# Altium footprint library МЦТР.00010592.00.002.PcbLib: 25 footprints (part 2 of 2)
Each footprint in its own frame and in the unit in brackets; x right, y up, seen from the top. Pads: shape width x height; smd on the part's side, far side on the other; paste and mask are expansions set on the pad; w line width, h text height; cw(c..) or ccw(c..) is an arc to the next point about the centre after c.
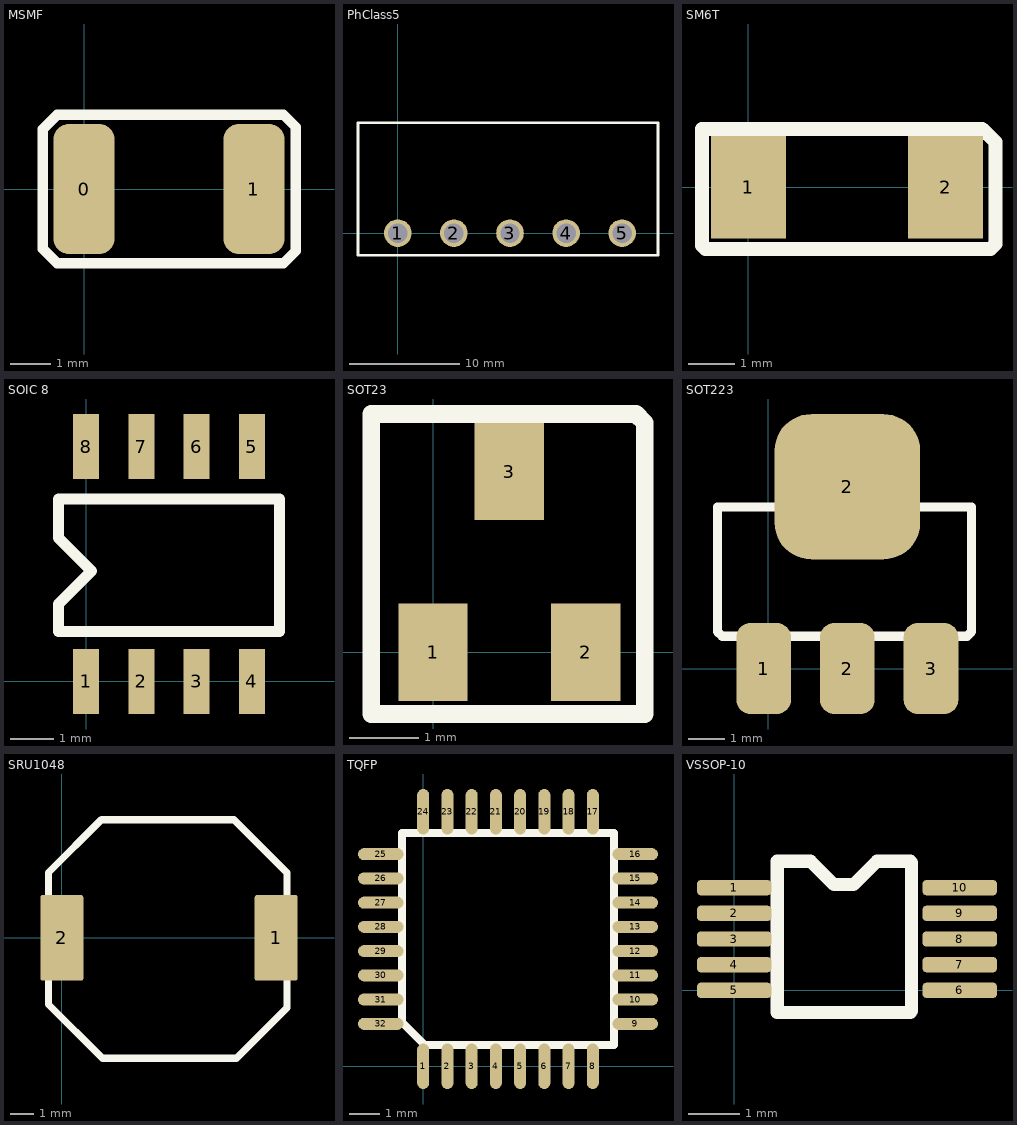
[diagram p1: the footprints below, top view; thin cyan lines are the x and y axes]

## MSMF [mm] "PTC Fuse"
height 2
pads (2):
  rrect50% 1.5x3.2 smd: 0(0,0) 1(4.175,0)
Top Overlay:
  lines w0.254: -1.016,-1.473 -1.016,1.473 -0.66,1.829 4.902,1.829 5.207,1.524 5.207,-1.524 4.902,-1.829 -0.66,-1.829 -1.016,-1.473
3D body "MF-MSMF030-2.STEP": height 0.85, standoff 0, extent -0.116,-1.62 4.434,1.62

## PhClass5 [mm]
height 8
pads (5):
  round 2.5 hole 1.75: 1(0,0) 2(5.08,0) 3(10.16,0) 4(15.24,0) 5(20.32,0)
Top Overlay:
  lines w0.254: -3.6,-2 -3.6,10 23.56,10 23.56,-2 -3.6,-2
3D body "MSTBA-2.5-5-G-5.08.STEP": height 8.6, standoff -3.5, extent -3.524,-2.034 23.876,9.968

## SM6T [mm]
height 3
pads (2):
  rect 1.6x2.2 smd: 1(0,0) 2(4.22,0)
Top Overlay:
  lines w0.3: -0.991,-1.245 -0.914,-1.321 5.182,-1.321 5.283,-1.219 5.283,0.965 5.004,1.245 -0.991,1.245 -0.991,-1.245
3D body "SMAJ5.0CA.STEP": height 2.4, standoff 0, extent -0.446,-1.303 4.764,1.302

## SOIC 8 [mm]
height 1
pads (8):
  rect 0.6x1.5 smd: 1(0,0) 2(1.27,0) 3(2.54,0) 4(3.81,0) 5(3.81,5.4) 6(2.54,5.4) 7(1.27,5.4) 8(0,5.4)
Top Overlay:
  lines w0.254: -0.635,1.143 4.445,1.143 4.445,4.191 -0.635,4.191 -0.635,3.302 0.127,2.54 -0.635,1.778 -0.635,1.143
3D body "SOIC8.STEP": height 1.75, standoff 0, extent -0.547,-0.328 4.358,5.662

## SOT23 [mm]
height 1
pads (3):
  rect 1x1.4 smd: 1(0,0) 2(2.2,0) 3(1.1,2.6)
Top Overlay:
  lines w0.254: -0.889,-0.889 -0.889,3.429 2.921,3.429 3.048,3.302 3.048,-0.889 -0.889,-0.889
3D body "CDSOT23-SM712--3DModel-STEP-56544.STEP": height 1.17, standoff 0, extent -0.434,0.122 2.466,2.418

## SOT223 [mm]
height 1
pads (4):
  rrect50% 1.5x2.5 smd mask+0.1: 1(-0.127,0) 2(2.173,0) 3(4.473,0)
  rrect50% 4x4 smd: 2(2.173,5)
Top Overlay:
  lines w0.254: -1.397,1.016 -1.397,4.445 5.588,4.445 5.588,1.016 5.461,0.889 -1.27,0.889 -1.397,1.016
3D body "SOT223.STEP": height 1.8, standoff 0, extent -1.091,-0.578 5.409,6.42

## SRU1048 [mm]
height 5
pads (2):
  rrect10% 1.8x3.6 smd: 1(9,0) 2(0,0)
Top Overlay:
  lines w0.3: -0.559,-2.794 1.702,-5.055 7.341,-5.055 9.449,-2.946 9.449,2.743 7.231,4.961 1.659,4.961 -0.559,2.743 -0.559,-2.794
3D body "SRU1048331Y.STEP": height 5.1, standoff 0, extent -0.555,-4.619 9.445,5.381

## TQFP [mm]
height 2
pads (32):
  oval 0.4x1.5 smd mask+0.05: 1(0,0) 2(0.8,0) 3(1.6,0) 4(2.4,0) 5(3.2,0) 6(4,0) 7(4.8,0) 8(5.6,0) 17(5.6,8.4) 18(4.8,8.4) 19(4,8.4) 20(3.2,8.4) 21(2.4,8.4) 22(1.6,8.4) 23(0.8,8.4) 24(0,8.4)
  oval 1.5x0.4 smd mask+0.05: 9(7,1.4) 10(7,2.2) 11(7,3) 12(7,3.8) 13(7,4.6) 14(7,5.4) 15(7,6.2) 16(7,7) 25(-1.4,7) 26(-1.4,6.2) 27(-1.4,5.4) 28(-1.4,4.6) 29(-1.4,3.8) 30(-1.4,3) 31(-1.4,2.2) 32(-1.4,1.4)
Top Overlay:
  lines w0.254: -0.7,1.462 0.062,0.7 6.3,0.7 6.3,7.7 -0.7,7.7 -0.7,1.462
3D body "ATMEGA168PB-AU.STEP": height 1.2, standoff 0, extent -1.706,-0.309 7.294,8.691

## VSSOP-10 [mm]
height 1
pads (10):
  rrect50% 1.45x0.3 smd mask+0.05: 1(0,2) 2(0,1.5) 3(0,1) 4(0,0.5) 5(0,0) 6(4.394,0) 7(4.394,0.5) 8(4.394,1) 9(4.394,1.5) 10(4.394,2)
Top Overlay:
  lines w0.254: 0.838,-0.432 0.838,2.515 1.486,2.515 1.943,2.057 2.324,2.057 2.781,2.515 3.429,2.515 3.454,2.489 3.454,-0.406 3.429,-0.432 0.838,-0.432
3D body "ADS1115IDGST.STEP": height 1.1, standoff 0, extent -0.291,-0.484 4.609,2.516